# EAGLE library part A4988_QFN28 (library A4988)
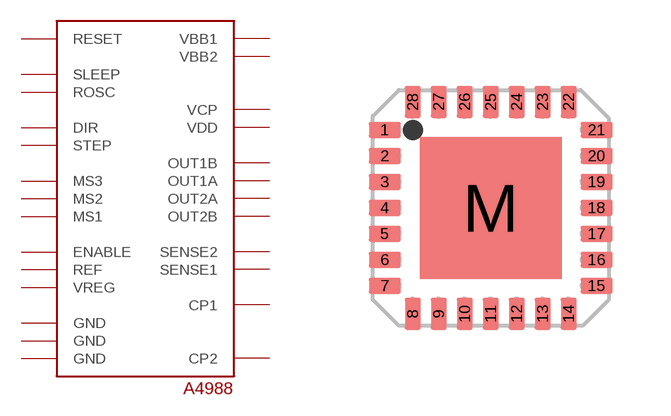
[diagram p3: symbol with the pads of QFN28; footprint QFN28]

Designator prefix U

## A4988_QFN28  [QFN28]
1  OUT2B
2  ENABLE
3  GND
4  CP1
5  CP2
6  VCP
8  VREG
9  MS1
10  MS2
11  MS3
12  RESET
13  ROSC
14  SLEEP
15  VDD
16  STEP
17  REF
18  GND
19  DIR
21  OUT1B
22  VBB1
23  SENSE1
24  OUT1A
26  OUT2A
27  SENSE2
28  VBB2
M  GND

## Footprint QFN28 (pad centres in mm)
smd 0.8 x 0.4: 1 -2.65,1.95; 2 -2.65,1.3; 3 -2.65,0.65; 4 -2.65,0; 5 -2.65,-0.65; 6 -2.65,-1.3; 7 -2.65,-1.95; 15 2.65,-1.95; 16 2.65,-1.3; 17 2.65,-0.65; 18 2.65,0; 19 2.65,0.65; 20 2.65,1.3; 21 2.65,1.95
smd 0.4 x 0.8: 8 -1.95,-2.65; 9 -1.3,-2.65; 10 -0.65,-2.65; 11 0,-2.65; 12 0.65,-2.65; 13 1.3,-2.65; 14 1.95,-2.65; 22 1.95,2.65; 23 1.3,2.65; 24 0.65,2.65; 25 0,2.65; 26 -0.65,2.65; 27 -1.3,2.65; 28 -1.95,2.65
smd 3.55 x 3.55: M 0,0